# EAGLE library part SH5-5 (library con-rib)
RIBBON CABLE CONNECTOR
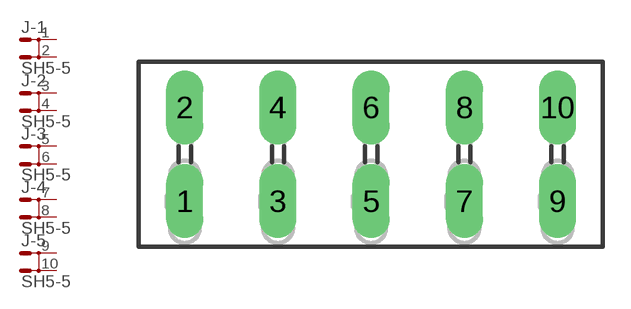
[diagram p3: symbol with the pads of SH5-5; footprint SH5-5]

Designator prefix J; gates -1=MD -2=MD -3=MD -4=MD -5=MD

## SH5-5  [SH5-5]
1  -1:1  pas
2  -1:2  pas
3  -2:1  pas
4  -2:2  pas
5  -3:1  pas
6  -3:2  pas
7  -4:1  pas
8  -4:2  pas
9  -5:1  pas
10  -5:2  pas

## Footprint SH5-5 (pad centres in mm)
RIBBON CABLE CONNECTOR
drill 1.321 long: 1 -10.008,-2.515; 2 -10.008,2.515; 3 -5.004,-2.515; 4 -5.004,2.515; 5 0,-2.515; 6 0,2.515; 7 5.004,-2.515; 8 5.004,2.515; 9 10.008,-2.515; 10 10.008,2.515